# Altium footprint library DS3231_RTC_PCB.PcbLib: 1 footprints
Each footprint in its own frame and in the unit in brackets; x right, y up, seen from the top. Pads: shape width x height; smd on the part's side, far side on the other; paste and mask are expansions set on the pad; w line width, h text height; cw(c..) or ccw(c..) is an arc to the next point about the centre after c.
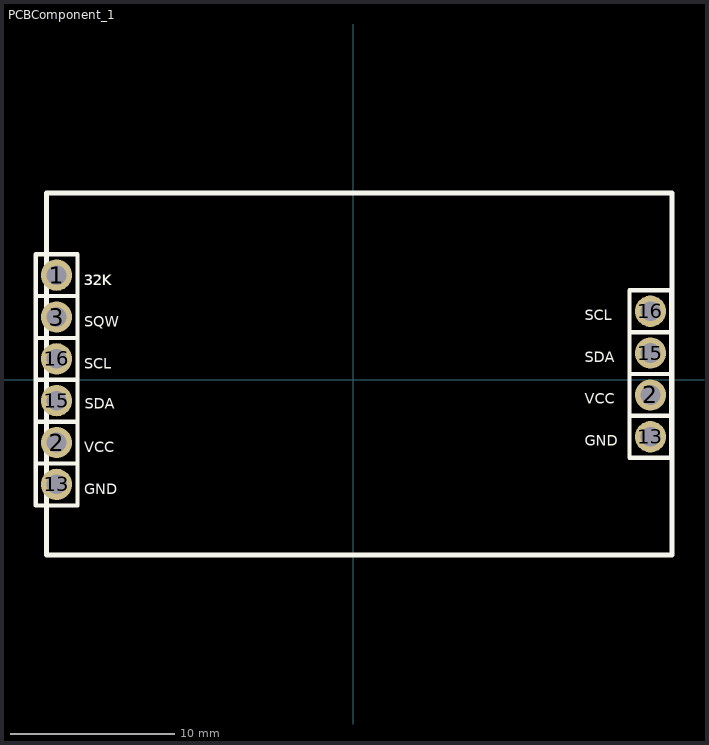
[diagram p0: the footprint, top view; thin cyan lines are the x and y axes]

## PCBComponent_1 [mm]
pads (10):
  round 1.9 hole 1.2: 1(-18.026,6.35) 2(-18.026,-3.81) 2(18.026,-0.92) 3(-18.026,3.81) 13(-18.026,-6.35) 13(18.026,-3.46) 15(-18.026,-1.27) 15(18.026,1.62) 16(-18.026,1.27) 16(18.026,4.16)
Top Overlay:
  lines w0.254: -19.286,-5.084 -19.286,-2.544 ; -19.286,-5.084 -16.746,-5.084 ; -19.286,-5.084 -19.286,-7.624 -16.746,-7.624 -16.746,-5.084 ; -19.286,-5.084 -16.746,-5.084 ; -19.286,-2.544 -16.746,-2.544 ; -19.286,-2.544 -19.286,-0.004 ; -19.286,-2.544 -16.746,-2.544 ; -19.286,-0.004 -16.746,-0.004 ; -19.286,-0.004 -19.286,2.536 ; -19.286,-0.004 -16.746,-0.004 ; -19.286,2.536 -16.746,2.536 ; -19.286,2.536 -19.286,5.076 ; -19.286,2.536 -16.746,2.536 ; -19.286,5.076 -19.286,7.616 ; -19.286,5.076 -16.746,5.076 ; -19.286,5.076 -19.286,7.616 ; -19.286,5.076 -16.746,5.076 ; -19.286,5.076 -16.746,5.076 ; -19.286,7.616 -16.746,7.616 ; -19.286,7.616 -16.746,7.616 ; -16.746,-5.084 -16.746,-2.544 ; -16.746,-2.544 -16.746,-0.004 ; -16.746,-0.004 -16.746,2.536 ; -16.746,2.536 -16.746,5.076 ; -16.746,5.076 -16.746,7.616 ; -16.746,5.076 -16.746,7.616 ; 16.756,-2.19 16.756,0.35 ; 16.756,-2.19 19.296,-2.19 ; 16.756,-2.19 16.756,-4.73 19.296,-4.73 19.296,-2.19 ; 16.756,-2.19 19.296,-2.19 ; 16.756,0.35 19.296,0.35 ; 16.756,0.35 16.756,2.89 ; 16.756,0.35 19.296,0.35 ; 16.756,2.89 19.296,2.89 ; 16.756,2.89 16.756,5.43 19.296,5.43 19.296,2.89 ; 16.756,2.89 19.296,2.89 ; 19.296,-2.19 19.296,0.35 ; 19.296,0.35 19.296,2.89
  lines w0.3: -18.626,-10.65 -18.626,11.35 19.347,11.35 19.347,-10.65 -18.626,-10.65
  text "GND" at -16.358,-6.951 h0.65
  text "VCC" at -16.358,-4.411 h0.65
  text "SDA" at -16.307,-1.745 h0.65
  text "SCL" at -16.358,0.669 h0.65
  text "SQW" at -16.358,3.209 h0.65
  text "32K" at -16.358,5.749 h0.65
  text "32K" at -16.383,5.749 h0.65
  text "GND" at 14.026,-4.01 h0.65
  text "VCC" at 14.026,-1.47 h0.65
  text "SDA" at 14.026,1.07 h0.65
  text "SCL" at 14.026,3.61 h0.65
3D body "HW-84 v7.step": height 4.87, standoff -9.55, extent -26.457,-10.627 19.623,11.223